# Altium footprint library MYLIB.PcbLib: 19 footprints (part 1 of 2)
Each footprint in its own frame and in the unit in brackets; x right, y up, seen from the top. Pads: shape width x height; smd on the part's side, far side on the other; paste and mask are expansions set on the pad; w line width, h text height; cw(c..) or ccw(c..) is an arc to the next point about the centre after c.
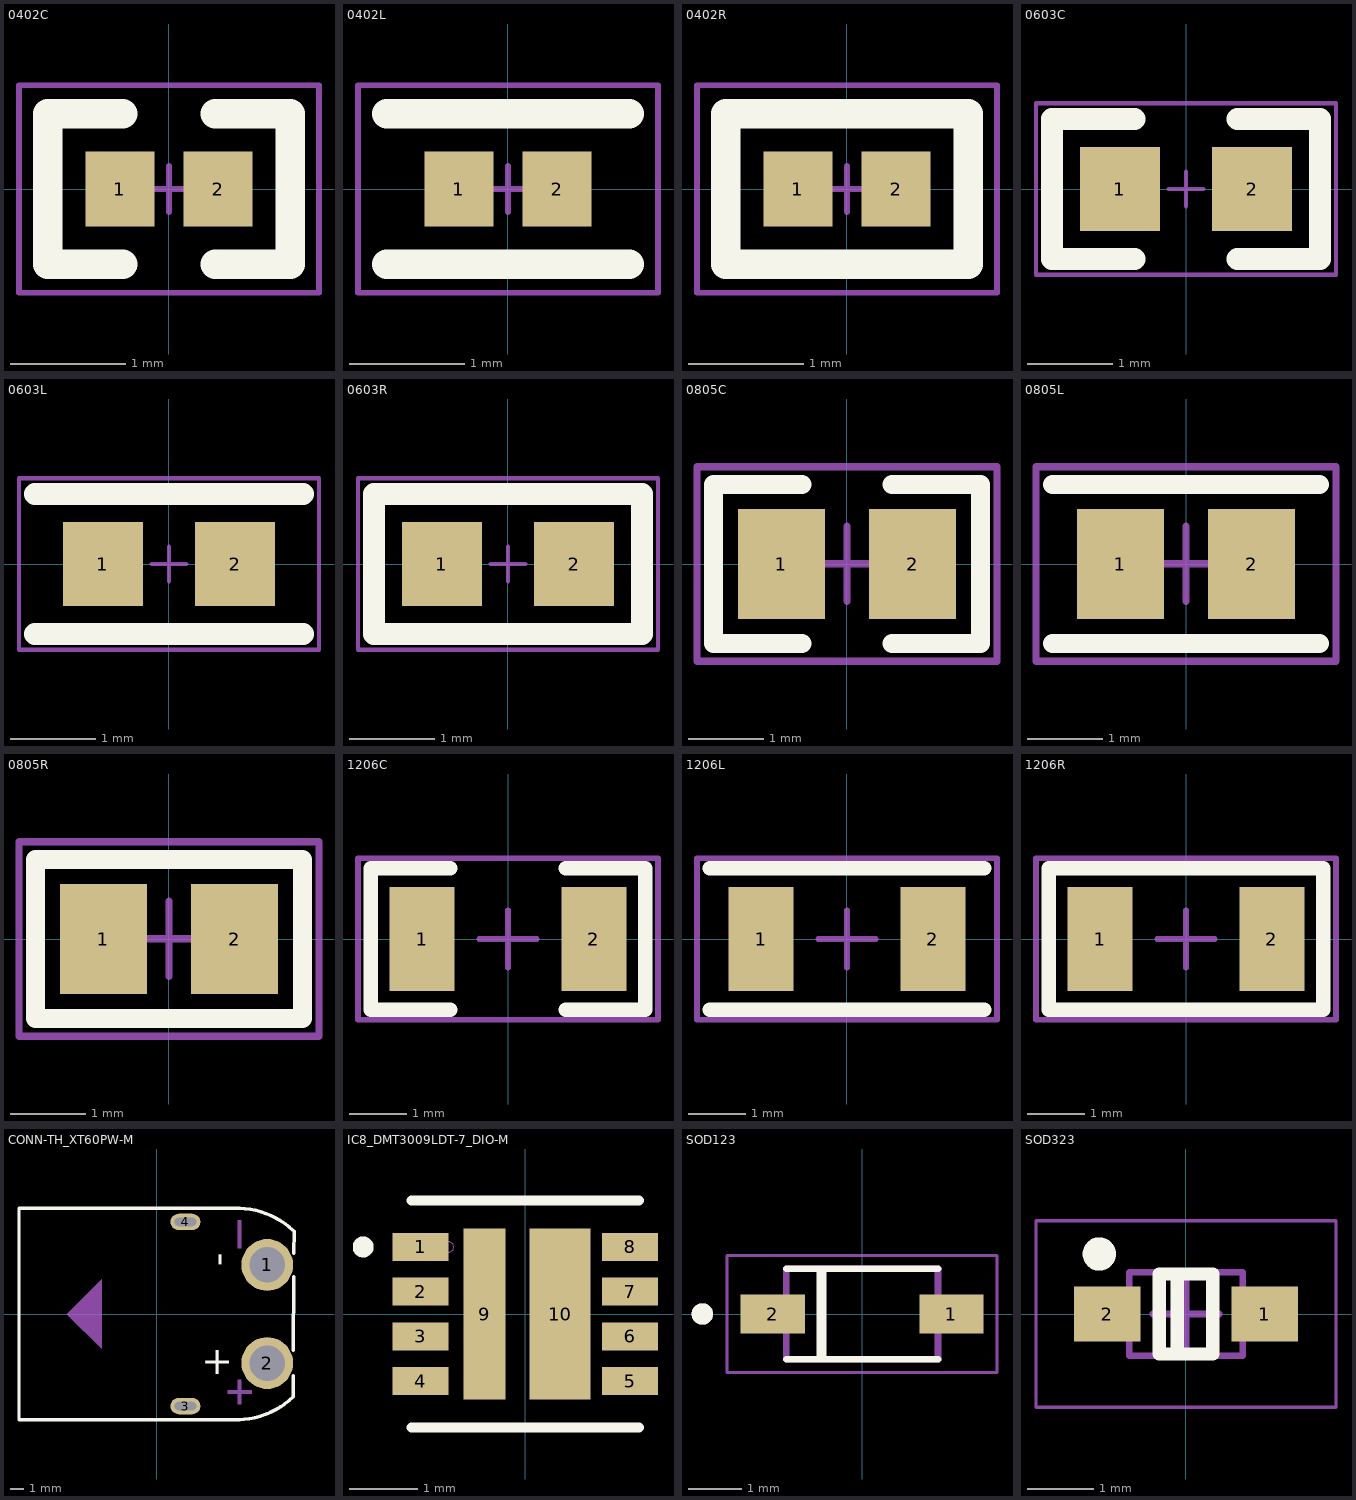
[diagram p0: the footprints below, top view; thin cyan lines are the x and y axes]

## 0402C [mm]
pads (2):
  rect 0.6x0.65 smd: 1(-0.425,0) 2(0.425,0)
Top Overlay:
  lines w0.254: -0.4,-0.652 -1.052,-0.652 -1.052,0.652 -0.4,0.652 ; 0.4,-0.652 1.052,-0.652 1.052,0.652 0.4,0.652
Mechanical 15:
  lines w0.05: -0.2,0 0.2,0 ; 0,-0.2 0,0.2 ; -1.3,-0.9 -1.3,0.9 1.3,0.9 1.3,-0.9 -1.3,-0.9
3D body "0402 SMD Capacitor.step": height 0.2, standoff 0, extent -0.483,-0.3 0.518,0.3

## 0402L [mm]
pads (2):
  rect 0.6x0.65 smd: 1(-0.425,0) 2(0.425,0)
Top Overlay:
  lines w0.254: -1.052,-0.652 1.052,-0.652 ; -1.052,0.652 1.052,0.652
Mechanical 15:
  lines w0.05: -0.2,0 0.2,0 ; 0,-0.2 0,0.2 ; -1.3,-0.9 1.3,-0.9 1.3,0.9 -1.3,0.9 -1.3,-0.9
3D body "L0402.STEP": height 0.36, standoff -0.01, extent -0.512,-0.262 0.538,0.263

## 0402R [mm]
pads (2):
  rect 0.6x0.65 smd: 1(-0.425,0) 2(0.425,0)
Top Overlay:
  lines w0.254: -1.052,-0.652 1.052,-0.652 1.052,0.652 -1.052,0.652 -1.052,-0.652
Mechanical 15:
  lines w0.05: -0.2,0 0.2,0 ; 0,-0.2 0,0.2 ; -1.3,-0.9 1.3,-0.9 1.3,0.9 -1.3,0.9 -1.3,-0.9
3D body "User Library-RES_1005-0402.STEP": height 0.41, standoff 0, extent -0.575,-0.275 0.575,0.275

## 0603C [mm]
pads (2):
  rect 0.93x0.98 smd: 1(-0.77,0) 2(0.77,0)
Top Overlay:
  lines w0.254: -0.6,-0.817 -1.562,-0.817 -1.562,0.817 -0.6,0.817 ; 0.6,-0.817 1.562,-0.817 1.562,0.817 0.6,0.817
Mechanical 15:
  lines w0.05: -0.2,0 0.2,0 ; 0,-0.2 0,0.2 ; -1.75,-1 -1.75,1 1.75,1 1.75,-1 -1.75,-1
3D body "User Library-0603 SMD Capacitor.STEP": height 0.3, standoff 0, extent -0.8,-0.4 0.8,0.4

## 0603L [mm]
pads (2):
  rect 0.93x0.98 smd: 1(-0.77,0) 2(0.77,0)
Top Overlay:
  lines w0.254: -1.562,-0.817 1.562,-0.817 ; -1.562,0.817 1.562,0.817
Mechanical 15:
  lines w0.05: -0.2,0 0.2,0 ; 0,-0.2 0,0.2 ; -1.75,-1 -1.75,1 1.75,1 1.75,-1 -1.75,-1
3D body "L0603.STEP": height 0.46, standoff -0.01, extent -0.825,-0.412 0.825,0.413

## 0603R [mm]
pads (2):
  rect 0.93x0.98 smd: 1(-0.77,0) 2(0.77,0)
Top Overlay:
  lines w0.254: -1.562,-0.817 -1.562,0.817 1.562,0.817 1.562,-0.817 -1.562,-0.817
Mechanical 15:
  lines w0.05: -0.2,0 0.2,0 ; 0,-0.2 0,0.2 ; -1.75,-1 1.75,-1 1.75,1 -1.75,1 -1.75,-1
3D body "User Library-RES_1609-0603.STEP": height 0.56, standoff 0, extent -0.85,-0.4 0.85,0.4

## 0805C [mm]
pads (2):
  rect 1.16x1.47 smd: 1(-0.875,0) 2(0.875,0)
Top Overlay:
  lines w0.254: -0.6,-1.062 -1.782,-1.062 -1.782,1.062 -0.6,1.062 ; 0.6,-1.062 1.782,-1.062 1.782,1.062 0.6,1.062
Mechanical 15:
  lines w0.1: -0.5,0 0.5,0 ; 0,-0.5 0,0.5 ; -2,-1.3 2,-1.3 2,1.3 -2,1.3 -2,-1.3
3D body "User Library-0805 SMD Capacitor.STEP": height 0.77, standoff -0.01, extent -0.999,-0.625 1.001,0.625

## 0805L [mm]
pads (2):
  rect 1.16x1.47 smd: 1(-0.875,0) 2(0.875,0)
Top Overlay:
  lines w0.254: -1.782,-1.062 1.782,-1.062 ; -1.782,1.062 1.782,1.062
Mechanical 15:
  lines w0.1: -0.5,0 0.5,0 ; 0,-0.5 0,0.5 ; -2,-1.3 2,-1.3 2,1.3 -2,1.3 -2,-1.3
3D body "L0805.STEP": height 0.6, standoff -0.02, extent -1.022,-0.637 1.028,0.638

## 0805R [mm]
pads (2):
  rect 1.16x1.47 smd: 1(-0.875,0) 2(0.875,0)
Top Overlay:
  lines w0.254: -1.782,-1.062 1.782,-1.062 1.782,1.062 -1.782,1.062 -1.782,-1.062
Mechanical 15:
  lines w0.1: -0.5,0 0.5,0 ; 0,-0.5 0,0.5 ; -2,-1.3 -2,1.3 2,1.3 2,-1.3 -2,-1.3
3D body "User Library-R_0805.STEP": height 0.49, standoff -0.01, extent -0.997,-0.625 1.003,0.625

## 1206C [mm]
pads (2):
  rect 1.13x1.8 smd: 1(-1.49,0) 2(1.49,0)
Top Overlay:
  lines w0.254: -1,-1.227 -2.382,-1.227 -2.382,1.227 -1,1.227 ; 1,-1.227 2.382,-1.227 2.382,1.227 1,1.227
Mechanical 15:
  lines w0.1: -0.5,0 0.5,0 ; 0,-0.5 0,0.5 ; -2.6,-1.4 2.6,-1.4 2.6,1.4 -2.6,1.4 -2.6,-1.4
3D body "C1206.STEP": height 1, standoff 0, extent -1.602,-0.813 1.598,0.787

## 1206L [mm]
pads (2):
  rect 1.13x1.8 smd: 1(-1.49,0) 2(1.49,0)
Top Overlay:
  lines w0.254: -2.382,-1.227 2.382,-1.227 ; -2.382,1.227 2.382,1.227
Mechanical 15:
  lines w0.1: -0.5,0 0.5,0 ; 0,-0.5 0,0.5 ; -2.6,-1.4 2.6,-1.4 2.6,1.4 -2.6,1.4 -2.6,-1.4
3D body "C1206.STEP": height 1, standoff 0, extent -1.602,-0.813 1.598,0.787

## 1206R [mm]
pads (2):
  rect 1.13x1.8 smd: 1(-1.49,0) 2(1.49,0)
Top Overlay:
  lines w0.254: -2.382,-1.227 -2.382,1.227 2.382,1.227 2.382,-1.227 -2.382,-1.227
Mechanical 15:
  lines w0.1: -0.5,0 0.5,0 ; 0,-0.5 0,0.5 ; -2.6,-1.4 2.6,-1.4 2.6,1.4 -2.6,1.4 -2.6,-1.4
3D body "User Library-RES_3216-1206.STEP": height 0.85, standoff 0, extent -1.7,-0.864 1.65,0.866

## CONN-TH_XT60PW-M [mm] "C98732"
pads (4):
  round 3.8 hole 2.6: 1(8.117,3.6) 2(8.117,-3.6)
  oval 2.2x1.2 hole 0.6 slot 1.6 at 0 deg: 3(2.117,-6.75) 4(2.117,6.75)
Top Overlay:
  lines w0.254: 6.006,-7.747 ccw(c5.864,-1.749) 10.035,-6.062 ; 6.054,7.747 cw(c5.912,1.749) 10.083,6.062 10.074,4.441 ; 6.117,-7.75 -10.083,-7.75 -10.083,7.75 6.117,7.75 ; 10.019,-5.994 10.027,-4.544 ; 10.037,-2.676 10.065,2.738
  text "+" at 5.639,-2.659 h2.03
  text "-" at 3.887,4.496 h2.03
Mechanical 15:
  region: 5.969,-4.826 6.223,-4.826 6.223,-5.588 6.985,-5.588 6.985,-5.842 6.223,-5.842 6.223,-6.604 5.969,-6.604 5.969,-5.842 5.207,-5.842 5.207,-5.588 5.969,-5.588
  region: 5.969,6.858 6.223,6.858 6.223,4.826 5.969,4.826
  region: -4.027,2.54 -4.027,-2.54 -6.567,0
3D body "XT60PW-M.stp": height 8.53, standoff -2.42, extent -7.2,-7.95 10.1,7.95

## IC8_DMT3009LDT-7_DIO-M [mil]
pads (10):
  rect 32x16 smd: 1(-60,38.39) 2(-60,12.8) 3(-60,-12.8) 4(-60,-38.39) 5(60,-38.39) 6(60,-12.8) 7(60,12.8) 8(60,38.39)
  rect 24x98 smd paste+0: 9(-23.34,0)
  rect 35x98 smd paste-48.5: 10(19.94,0)
Top Overlay:
  circle w6: c-92.8,38.39 r3
  lines w6: -65,-65 65,-65 ; -65,65 65,65
Mechanical 13:
  circle w0: c-44,38.39 r3
3D body: height 10, standoff 0, extent 0,0 10,10

## SOD123 [mm]
pads (2):
  rect 1.21x0.73 smd: 1(1.68,0) 2(-1.68,0)
Top Overlay:
  circle w0.2: c-3,0 r0.1
  lines w0.127: -1.425,-0.85 1.425,-0.85 ; -1.425,0.85 1.425,0.85
  lines w0.191: -0.762,-0.762 -0.762,0.762
Mechanical 13:
  circle w0.2: c-3,0 r0.1
  lines w0.127: -1.425,-0.85 -1.425,0.85 1.425,0.85 1.425,-0.85 -1.425,-0.85
Mechanical 15:
  lines w0.05: -2.535,-1.1 -2.535,1.1 2.535,1.1 2.535,-1.1 -2.535,-1.1
3D body "1N5819HW-7-F--3DModel-STEP-56544.STEP": height 1.49, standoff -0.05, extent -1.825,-0.775 1.825,0.775

## SOD323 [mm]
pads (2):
  rect 1x0.83 smd: 1(1.18,0) 2(-1.18,0)
Top Overlay:
  circle w0.25: c-1.3,0.9 r0.125
  lines w0.2: -0.13,-0.6 -0.13,0.6 ; -0.4,-0.6 -0.4,0.6 0.4,0.6 0.4,-0.6 -0.4,-0.6
Mechanical 13:
  lines w0.1: -0.85,-0.625 0.85,-0.625 0.85,0.625 -0.85,0.625 -0.85,-0.625
Mechanical 15:
  lines w0.05: -2.25,-1.4 2.25,-1.4 2.25,1.4 -2.25,1.4 -2.25,-1.4
  lines w0.1: -0.5,0 0.5,0 ; 0,-0.5 0,0.5
3D body "SOD323F.STEP": height 0.75, standoff -0.01, extent -1.4,-0.675 1.4,0.675